# EAGLE library part TPS53353 (library df4iah_powersupply)
TPS53353 High-Efficiency 20-A Synchronous Buck SWIFT™ Converter With Eco-mode™ Conversion Input Voltage Range: 1.5 V to 15 V VDD Input Voltage Range: 4.5 V to 25 V 92% Efficiency From 12 V to 1.5 V at 20 A Output Voltage Range: 0.6 V to 5.5 V 5-V LDO Output Supports Single-Rail Input Integrated Power MOSFETs With 20 A of Continuous Output Current Auto-Skip Eco-mode™ for Light-Load Efficiency <10-μA Shutdown Current Precharged Start-up Capability Overvoltage, Undervoltage, UVLO and Overtemperature Protection
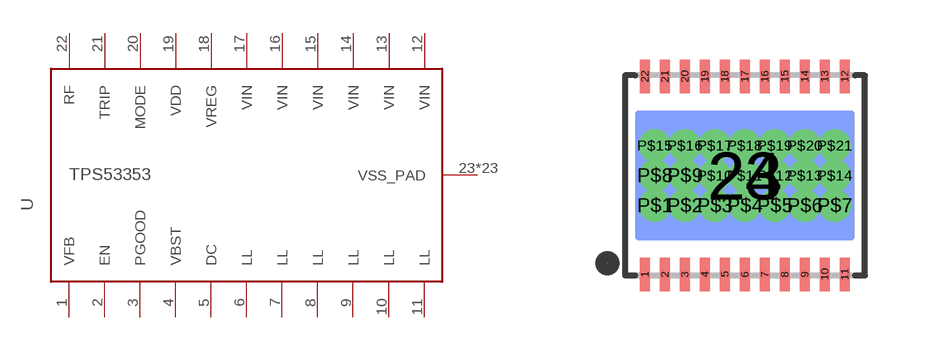
[diagram p8: symbol with the pads of DQP-22; footprint DQP-22]

Designator prefix U

## TPS53353  [DQP-22]
1  VFB  pas
2  EN  in
3  PGOOD  oc
4  VBST  pas
5  DC  nc
6  LL  pas
7  LL  pas
8  LL  pas
9  LL  pas
10  LL  pas
11  LL  pas
12  VIN  pwr
13  VIN  pwr
14  VIN  pwr
15  VIN  pwr
16  VIN  pwr
17  VIN  pwr
18  VREG  sup
19  VDD  pwr
20  MODE  pas
21  TRIP  pas
22  RF  pas
23  VSS_PAD  pas
24  VSS_PAD  pas
P$1  VSS_PAD  pas
P$2  VSS_PAD  pas
P$3  VSS_PAD  pas
P$4  VSS_PAD  pas
P$5  VSS_PAD  pas
P$6  VSS_PAD  pas
P$7  VSS_PAD  pas
P$8  VSS_PAD  pas
P$9  VSS_PAD  pas
P$10  VSS_PAD  pas
P$11  VSS_PAD  pas
P$12  VSS_PAD  pas
P$13  VSS_PAD  pas
P$14  VSS_PAD  pas
P$15  VSS_PAD  pas
P$16  VSS_PAD  pas
P$17  VSS_PAD  pas
P$18  VSS_PAD  pas
P$19  VSS_PAD  pas
P$20  VSS_PAD  pas
P$21  VSS_PAD  pas

## Footprint DQP-22 (pad centres in mm)
DQP(24) Body: 6.00 mm x 5.00 mm Pitch: 0.5 mm
smd 0.28 x 0.85: 1 -2.5,-2.475; 2 -2,-2.475; 3 -1.5,-2.475; 4 -1,-2.475; 5 -0.5,-2.475; 6 0,-2.475; 7 0.5,-2.475; 8 1,-2.475; 9 1.5,-2.475; 10 2,-2.475; 11 2.5,-2.475; 12 2.5,2.475; 13 2,2.475; 14 1.5,2.475; 15 1,2.475; 16 0.5,2.475; 17 0,2.475; 18 -0.5,2.475; 19 -1,2.475; 20 -1.5,2.475; 21 -2,2.475; 22 -2.5,2.475
smd 5.48 x 3.24: 23 0,0
smd 5.48 x 3.24 bottom: 24 0,0
drill 0.3 pad 0.61: P$1 -2.25,-0.75; P$2 -1.5,-0.75; P$3 -0.75,-0.75; P$4 0,-0.75; P$5 0.75,-0.75; P$6 1.5,-0.75; P$7 2.25,-0.75; P$8 -2.25,0; P$9 -1.5,0; P$10 -0.75,0; P$11 0,0; P$12 0.75,0; P$13 1.5,0; P$14 2.25,0; P$15 -2.25,0.75; P$16 -1.5,0.75; P$17 -0.75,0.75; P$18 0,0.75; P$19 0.75,0.75; P$20 1.5,0.75; P$21 2.25,0.75